# Altium schematic symbol library ssss223900.SchLib: 1 symbol
Pins are listed as number, name and electrical type; pins without a type are passive.

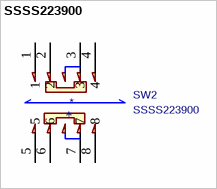
[diagram p0: symbol SSSS223900]

## SSSS223900
designator *  value SSSS223900  Reference: SW2
Footprint: easyeda2kicad:SW-TH_SSSS223900; Datasheet: https://lcsc.com/product-detail/Toggle-Switches_ALPS_SSSS223900_SSSS223900_C160874.html; LCSC Part: C160874
pins: 1, 2, 3, 4, 5, 6, 7, 8